# Altium footprint library Relays_Switches.PcbLib: 4 footprints
Each footprint in its own frame and in the unit in brackets; x right, y up, seen from the top. Pads: shape width x height; smd on the part's side, far side on the other; paste and mask are expansions set on the pad; w line width, h text height; cw(c..) or ccw(c..) is an arc to the next point about the centre after c.
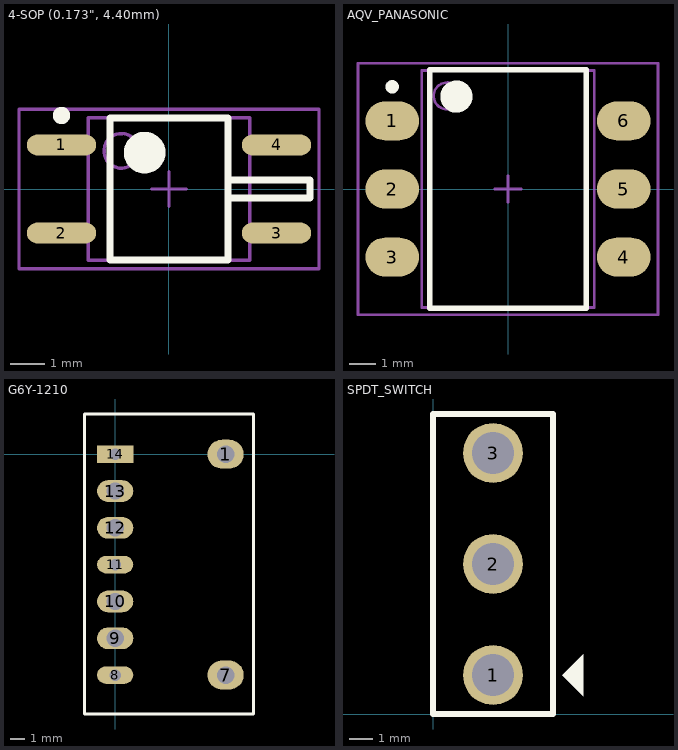
[diagram p0: the footprints below, top view; thin cyan lines are the x and y axes]

## 4-SOP (0.173", 4.40mm) [mm] "Relay, 4-Leads, Body 4.1x4.7mm (max), Pitch 2.54mm, IPC Medium Density"
height 2.1
pads (4):
  oval 2x0.6 smd: 1(-3.1,1.27) 2(-3.1,-1.27) 3(3.1,-1.27) 4(3.1,1.27)
Top Overlay:
  circle w0.6: c-0.7,1.05 r0.3
  circle w0.25: c-3.1,2.12 r0.125
  lines w0.2: 1.7,-0.254 4.064,-0.254 4.064,0.254 1.778,0.254 ; -1.7,-2.05 1.7,-2.05 1.7,2.05 -1.7,2.05 -1.7,-2.05
Mechanical 13:
  circle w0.1: c-1.375,1.1 r0.5
  lines w0.1: -2.325,-2.05 2.325,-2.05 2.325,2.05 -2.325,2.05 -2.325,-2.05
Mechanical 15:
  lines w0.1: -0.5,0 0.5,0 ; 0,-0.5 0,0.5 ; -4.325,-2.3 4.325,-2.3 4.325,2.3 -4.325,2.3 -4.325,-2.3
3D body: height 2, standoff -0.1, extent -3.5,-1.905 3.5,1.995

## AQV_PANASONIC [mm]
height 3.6
pads (6):
  oval 2x1.45 smd: 1(-4.325,2.54) 2(-4.325,0) 3(-4.325,-2.54) 4(4.325,-2.54) 5(4.325,0) 6(4.325,2.54)
Top Overlay:
  circle w0.25: c-4.325,3.815 r0.125
  circle w0.6: c-1.925,3.45 r0.3
  lines w0.2: -2.925,-4.45 -2.925,4.45 2.925,4.45 2.925,-4.45 -2.925,-4.45
Mechanical 13:
  circle w0.1: c-2.275,3.475 r0.5
  lines w0.1: -3.225,-4.425 -3.225,4.425 3.225,4.425 3.225,-4.425 -3.225,-4.425
Mechanical 15:
  lines w0.1: -0.5,0 0.5,0 ; 0,-0.5 0,0.5 ; -5.6,-4.7 -5.6,4.7 5.6,4.7 5.6,-4.7 -5.6,-4.7
3D body: height 3.6, standoff 0.2, extent -3.225,-4.425 3.225,4.425

## G6Y-1210 [mm]
height 20
pads (9):
  oval 2.5x2 hole 1.2: 1(7.62,0) 7(7.62,-15.24)
  oval 2.5x1.2 hole 0.8: 8(0,-15.24) 11(0,-7.62)
  oval 2.5x1.5 hole 1.2: 9(0,-12.7) 10(0,-10.16) 12(0,-5.08) 13(0,-2.54)
  rect 2.5x1.2 hole 0.8: 14(0,0)
Top Overlay:
  lines w0.2: -2.125,2.75 -2.125,-17.925 9.55,-17.925 9.55,2.775 4.445,2.775 ; -2.125,2.775 0.22,2.775 5.75,2.775
3D body: height 9.2, standoff 0, extent -2.125,-17.925 9.575,2.8

## SPDT_SWITCH [mil]
pads (3):
  round 100 hole 70: 1(100,65) 2(100,250) 3(100,435)
Top Overlay:
  region: 215,65 250,100 250,30
  lines w10: 0,0 200,0 200,500 0,500 0,300 0,0
3D body: height 450, standoff 60, extent 5,5 195,495